# EAGLE library part ESP32-DEVKITC-38 (library ESP32-DEVKITC-38PIN)
General Dev Kit Board For Esp-Wroom-32. This is the wider 38 pin version for which there was no accurate footprint available on the net.
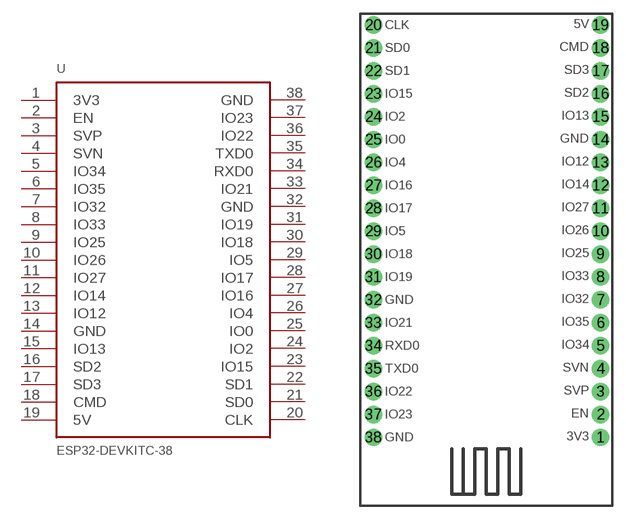
[diagram p0: symbol with the pads of ESP32-DEVKITC-38; footprint ESP32-DEVKITC-38]

Designator prefix U

## ESP32-DEVKITC-38 (AUTHOR: SWEETLILMRE)  [ESP32-DEVKITC-38]
1  3V3  pwr
2  EN
3  SVP  in
4  SVN  in
5  IO34  in
6  IO35  in
7  IO32
8  IO33
9  IO25
10  IO26
11  IO27
12  IO14
13  IO12
14  GND  pwr
15  IO13
16  SD2
17  SD3
18  CMD
19  5V  pwr
20  CLK
21  SD0
22  SD1
23  IO15
24  IO2
25  IO0
26  IO4
27  IO16
28  IO17
29  IO5
30  IO18
31  IO19
32  GND  pwr
33  IO21
34  RXD0
35  TXD0
36  IO22
37  IO23
38  GND  pwr

## Footprint ESP32-DEVKITC-38 (pad centres in mm)
drill 1 pad 1.93: 1 12.69,-20.33; 2 12.69,-17.79; 3 12.69,-15.25; 4 12.69,-12.71; 5 12.69,-10.17; 6 12.69,-7.63; 7 12.69,-5.09; 8 12.69,-2.55; 9 12.69,-0.01; 10 12.69,2.53; 11 12.69,5.07; 12 12.69,7.61; 13 12.69,10.15; 14 12.69,12.69; 15 12.69,15.23; 16 12.69,17.77; 17 12.69,20.31; 18 12.69,22.85; 19 12.69,25.39; 20 -12.5,25.39; 21 -12.5,22.85; 22 -12.5,20.31; 23 -12.5,17.77; 24 -12.5,15.23; 25 -12.5,12.69; 26 -12.5,10.15; 27 -12.5,7.61; 28 -12.5,5.07; 29 -12.5,2.53; 30 -12.5,-0.01; 31 -12.5,-2.55; 32 -12.5,-5.09; 33 -12.5,-7.63; 34 -12.5,-10.17; 35 -12.5,-12.71; 36 -12.5,-15.25; 37 -12.5,-17.79; 38 -12.5,-20.33